# EAGLE library part STBC08PMR (library Battery Chargers)
Charger IC Lithium-Ion 6-DFN (3x3) Manufacturer's datasheet <https://www.st.com/content/ccc/resource/technical/document/datasheet/32/cd/28/84/1b/53/4e/7d/CD00132950.pdf/files/CD00132950.pdf/jcr:content/translations/en.CD00132950.pdf>
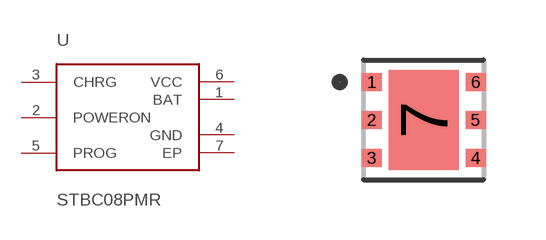
[diagram p17: symbol with the pads of STBC08PMR; footprint STBC08PMR]

Designator prefix U

## STBC08PMR (CREATED_BY: PCBLayout.com; DIGIKEY_PART_NUMBER: 497-5808-1-ND; MANUFACTURER: STMicroelectronics; MPN: STBC08PMR; PACKAGE: 6-DFN)  [STBC08PMR]
1  BAT  out
2  POWERON  in
3  CHRG  in
4  GND  pwr
5  PROG  in
6  VCC  pwr
7  EP  pwr

## Footprint STBC08PMR (pad centres in mm)
smd 0.5 x 0.45: 1 -1.3,0.95; 2 -1.3,0; 3 -1.3,-0.95; 4 1.3,-0.95; 5 1.3,0; 6 1.3,0.95
smd 1.75 x 2.5: 7 0,0